# Altium schematic symbol library MC74VHC1G.SchLib: 1 symbol
Pins are listed as number, name and electrical type; pins without a type are passive.

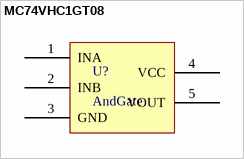
[diagram p0: symbol MC74VHC1GT08]

## MC74VHC1GT08
designator U?, comment AndGate
footprint MC74VHC1G (TSOP, 6-Leads, Body 3.00x1.50mm, Pitch 0.95mm, IPC Medium Density)
pins: 1 INA, 2 INB, 3 GND, 4 VCC, 5 VOUT